# EAGLE library part PIC16F84 (library Microchip)
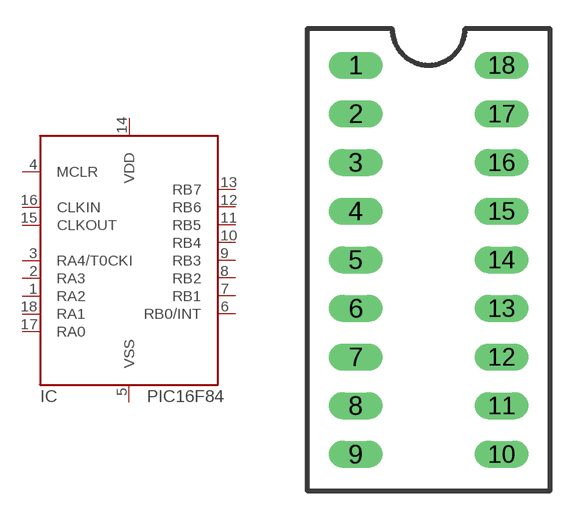
[diagram p1: symbol with the pads of DIP-18; footprint DIP-18]

Designator prefix IC

## PIC16F84/P  [DIP-18]
1  RA2
2  RA3
3  RA4/T0CKI
4  MCLR  in
5  VSS  pwr
6  RB0/INT
7  RB1
8  RB2
9  RB3
10  RB4
11  RB5
12  RB6
13  RB7
14  VDD  pwr
15  CLKOUT  out
16  CLKIN  in
17  RA0
18  RA1

## Footprint DIP-18 (pad centres in mm)
drill 0.889 long: 1 -3.81,10.16; 2 -3.81,7.62; 3 -3.81,5.08; 4 -3.81,2.54; 5 -3.81,0; 6 -3.81,-2.54; 7 -3.81,-5.08; 8 -3.81,-7.62; 9 -3.81,-10.16; 10 3.81,-10.16; 11 3.81,-7.62; 12 3.81,-5.08; 13 3.81,-2.54; 14 3.81,0; 15 3.81,2.54; 16 3.81,5.08; 17 3.81,7.62; 18 3.81,10.16